# Altium footprint library imx8mnano.PcbLib: 57 footprints (part 1 of 4)
Each footprint in its own frame and in the unit in brackets; x right, y up, seen from the top. Pads: shape width x height; smd on the part's side, far side on the other; paste and mask are expansions set on the pad; w line width, h text height; cw(c..) or ccw(c..) is an arc to the next point about the centre after c.
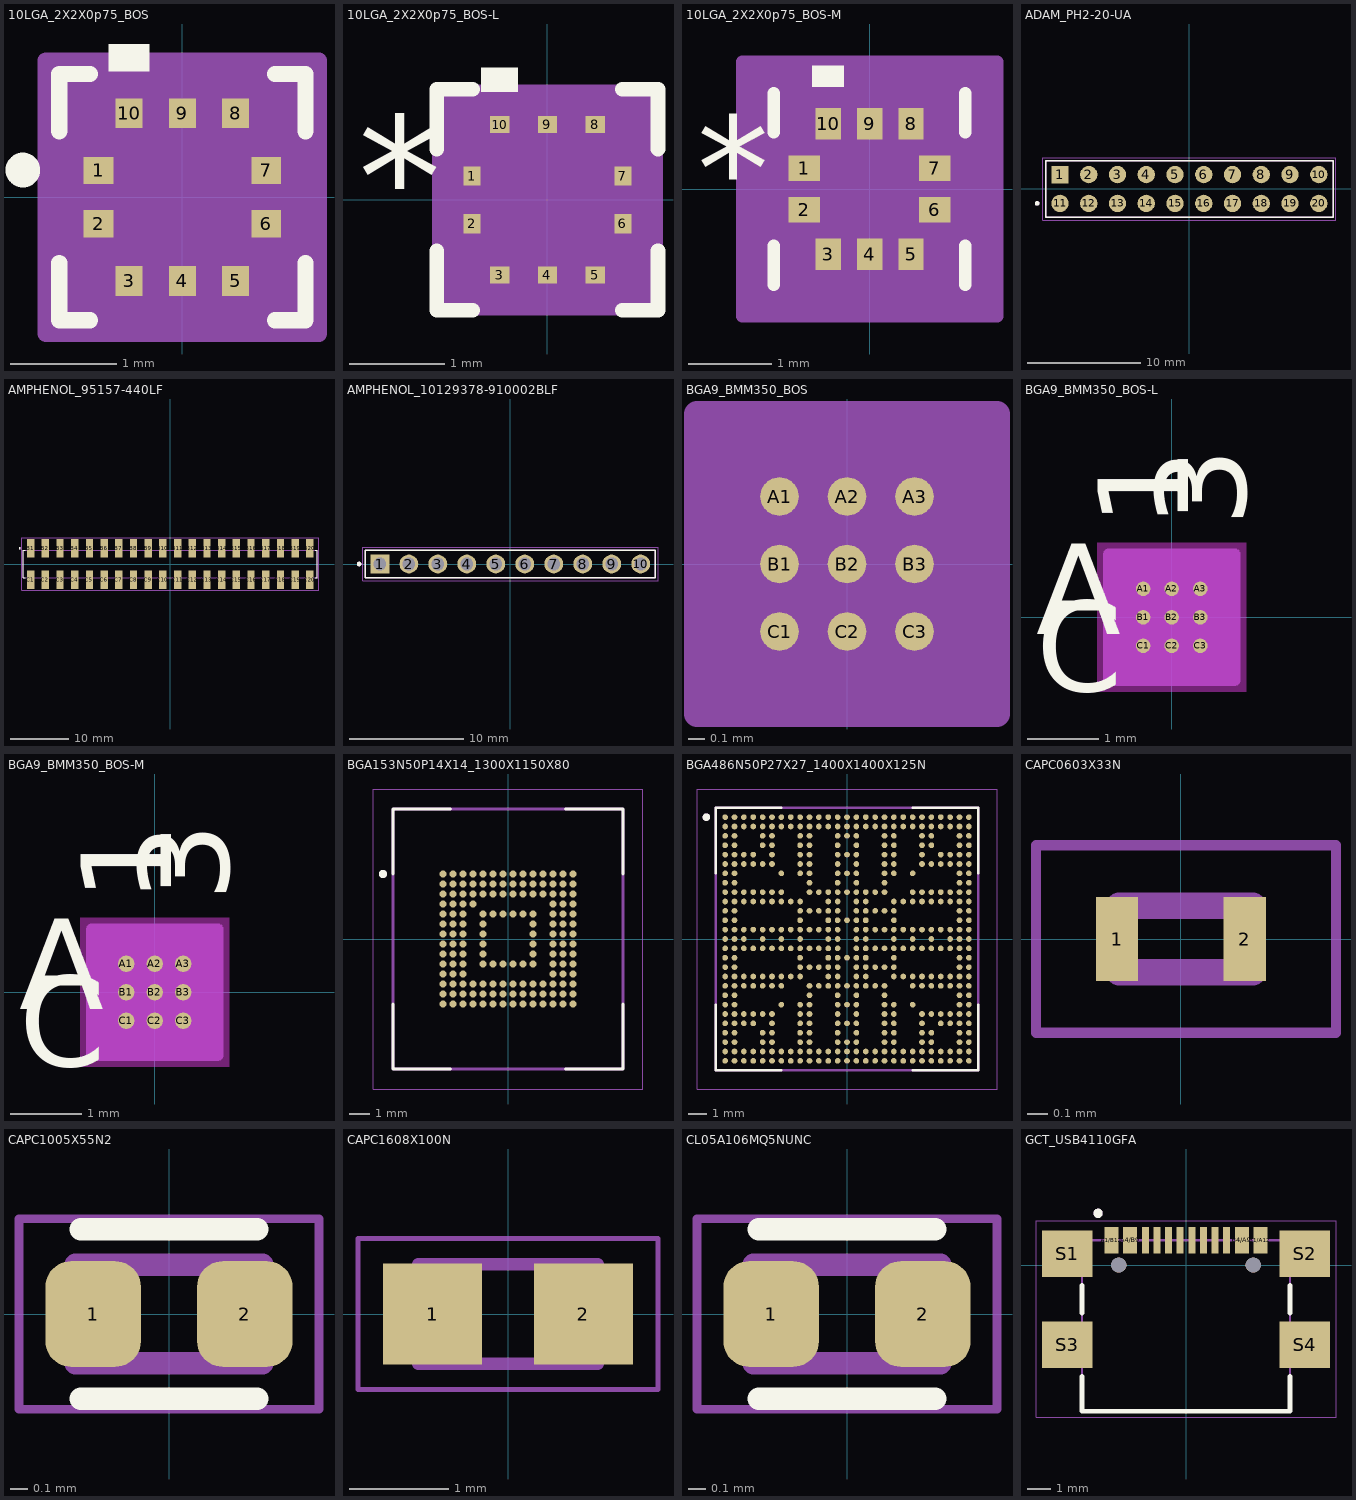
[diagram p0: the footprints below, top view; thin cyan lines are the x and y axes]

## 10LGA_2X2X0p75_BOS [mil]
pads (10):
  rect 11x10 smd paste+0 mask+0: 1(-31,9.84) 2(-31,-9.84) 6(31,-9.84) 7(31,9.84)
  rect 10x11 smd paste+0 mask+0: 3(-19.68,-31) 4(0,-31) 5(19.68,-31) 8(19.68,31) 9(0,31) 10(-19.68,31)
Top Overlay:
  circle w10: c-59,10 r1.41
  region: -12.19,46.5 -27.18,46.5 -27.18,56.5 -12.19,56.5
  lines w6: -45.5,-24.36 -45.5,-45.5 -34.2,-45.5 ; -45.5,24.36 -45.5,45.5 -34.2,45.5 ; 34.2,-45.5 45.5,-45.5 45.5,-24.36 ; 34.2,45.5 45.5,45.5 45.5,24.36
Mechanical 13:
  lines w1: -40.5,-9.5 9.5,40.5 ; -40.5,-40.5 -40.5,40.5 40.5,40.5 40.5,-40.5 -40.5,-40.5 ; -40.5,-14.84 -36.5,-14.84 -36.5,-4.84 -40.5,-4.84 -40.5,-14.84 ; -40.5,4.84 -36.5,4.84 -36.5,14.84 -40.5,14.84 -40.5,4.84 ; -24.68,-40.5 -24.68,-36.5 -14.69,-36.5 -14.69,-40.5 -24.68,-40.5 ; -24.68,36.5 -24.68,40.5 -14.69,40.5 -14.69,36.5 -24.68,36.5 ; -5,-40.5 -5,-36.5 5,-36.5 5,-40.5 -5,-40.5 ; -5,36.5 -5,40.5 5,40.5 5,36.5 -5,36.5 ; 14.69,-40.5 14.69,-36.5 24.68,-36.5 24.68,-40.5 14.69,-40.5 ; 14.69,36.5 14.69,40.5 24.68,40.5 24.68,36.5 14.69,36.5 ; 36.5,-14.84 36.5,-4.84 40.5,-4.84 40.5,-14.84 36.5,-14.84 ; 36.5,4.84 36.5,14.84 40.5,14.84 40.5,4.84 36.5,4.84
  text "*" at -7,-15.16 h50
Mechanical 15:
  region: -34.69,-50.5 -50.5,-50.5 -50.5,-24.84 -50.5,24.84 -50.5,50.5 -34.69,50.5 34.69,50.5 50.5,50.5 50.5,24.84 50.5,-24.84 50.5,-50.5 34.69,-50.5
  lines w6: -50.5,-50.5 -34.69,-50.5 34.69,-50.5 50.5,-50.5 50.5,-24.84 50.5,24.84 50.5,50.5 34.69,50.5 -34.69,50.5 -50.5,50.5 -50.5,24.84 -50.5,-24.84 -50.5,-50.5
3D body "10LGA_2X2X0p75_BOS.step": height 32.09, standoff 0, extent -40.51,-40.51 40.51,40.51

## 10LGA_2X2X0p75_BOS-L [mil]
pads (10):
  rect 7x8 smd paste+0 mask+0: 1(-31,9.84) 2(-31,-9.84) 6(31,-9.84) 7(31,9.84)
  rect 8x7 smd paste+0 mask+0: 3(-19.68,-31) 4(0,-31) 5(19.68,-31) 8(19.68,31) 9(0,31) 10(-19.68,31)
Top Overlay:
  region: -12.19,44.5 -27.18,44.5 -27.18,54.5 -12.19,54.5
  lines w6: -45.5,-20.96 -45.5,-45.5 -30.8,-45.5 ; -45.5,20.96 -45.5,45.5 -30.8,45.5 ; 30.8,-45.5 45.5,-45.5 45.5,-20.96 ; 30.8,45.5 45.5,45.5 45.5,20.96
  text "*" at -78,-15.16 h50
Mechanical 13:
  lines w1: -40.5,-9.5 9.5,40.5 ; -40.5,-40.5 40.5,-40.5 40.5,40.5 -40.5,40.5 -40.5,-40.5 ; -40.5,-14.84 -40.5,-4.84 -36.5,-4.84 -36.5,-14.84 -40.5,-14.84 ; -40.5,4.84 -40.5,14.84 -36.5,14.84 -36.5,4.84 -40.5,4.84 ; -24.68,-40.5 -14.69,-40.5 -14.69,-36.5 -24.68,-36.5 -24.68,-40.5 ; -24.68,36.5 -14.69,36.5 -14.69,40.5 -24.68,40.5 -24.68,36.5 ; -5,-40.5 5,-40.5 5,-36.5 -5,-36.5 -5,-40.5 ; -5,36.5 5,36.5 5,40.5 -5,40.5 -5,36.5 ; 14.69,-40.5 24.68,-40.5 24.68,-36.5 14.69,-36.5 14.69,-40.5 ; 14.69,36.5 24.68,36.5 24.68,40.5 14.69,40.5 14.69,36.5 ; 36.5,-14.84 40.5,-14.84 40.5,-4.84 36.5,-4.84 36.5,-14.84 ; 36.5,4.84 40.5,4.84 40.5,14.84 36.5,14.84 36.5,4.84
  text "*" at -9,-15.16 h50
Mechanical 15:
  region: -27.68,-44.5 -44.5,-44.5 -44.5,-17.84 -44.5,17.84 -44.5,44.5 -27.68,44.5 27.68,44.5 44.5,44.5 44.5,17.84 44.5,-17.84 44.5,-44.5 27.68,-44.5
  lines w6: -44.5,-44.5 -44.5,-17.84 -44.5,17.84 -44.5,44.5 -27.68,44.5 27.68,44.5 44.5,44.5 44.5,17.84 44.5,-17.84 44.5,-44.5 27.68,-44.5 -27.68,-44.5 -44.5,-44.5
3D body "10LGA_2X2X0p75_BOS.step": height 32.09, standoff 0, extent -40.51,-40.51 40.51,40.51

## 10LGA_2X2X0p75_BOS-M [mil]
pads (10):
  rect 15x12 smd paste+0 mask+0: 1(-31,9.84) 2(-31,-9.84) 6(31,-9.84) 7(31,9.84)
  rect 12x15 smd paste+0 mask+0: 3(-19.68,-31) 4(0,-31) 5(19.68,-31) 8(19.68,31) 9(0,31) 10(-19.68,31)
Top Overlay:
  region: -12.19,48.5 -27.18,48.5 -27.18,58.5 -12.19,58.5
  lines w6: -45.5,-45.5 -45.5,-26.92 ; -45.5,26.92 -45.5,45.5 ; 45.5,-45.5 45.5,-26.92 ; 45.5,26.92 45.5,45.5
  text "*" at -82,-15.16 h50
Mechanical 13:
  lines w1: -40.5,-9.5 9.5,40.5 ; -40.5,-40.5 40.5,-40.5 40.5,40.5 -40.5,40.5 -40.5,-40.5 ; -40.5,-14.84 -40.5,-4.84 -36.5,-4.84 -36.5,-14.84 -40.5,-14.84 ; -40.5,4.84 -40.5,14.84 -36.5,14.84 -36.5,4.84 -40.5,4.84 ; -24.68,-40.5 -14.69,-40.5 -14.69,-36.5 -24.68,-36.5 -24.68,-40.5 ; -24.68,36.5 -14.69,36.5 -14.69,40.5 -24.68,40.5 -24.68,36.5 ; -5,-40.5 5,-40.5 5,-36.5 -5,-36.5 -5,-40.5 ; -5,36.5 5,36.5 5,40.5 -5,40.5 -5,36.5 ; 14.69,-40.5 24.68,-40.5 24.68,-36.5 14.69,-36.5 14.69,-40.5 ; 14.69,36.5 24.68,36.5 24.68,40.5 14.69,40.5 14.69,36.5 ; 36.5,-14.84 40.5,-14.84 40.5,-4.84 36.5,-4.84 36.5,-14.84 ; 36.5,4.84 40.5,4.84 40.5,14.84 36.5,14.84 36.5,4.84
  text "*" at -5,-15.16 h50
Mechanical 15:
  region: -45.69,-60.5 -60.5,-60.5 -60.5,-35.84 -60.5,35.84 -60.5,60.5 -45.69,60.5 45.69,60.5 60.5,60.5 60.5,35.84 60.5,-35.84 60.5,-60.5 45.69,-60.5
  lines w6: -60.5,-60.5 -60.5,-35.84 -60.5,35.84 -60.5,60.5 -45.69,60.5 45.69,60.5 60.5,60.5 60.5,35.84 60.5,-35.84 60.5,-60.5 45.69,-60.5 -45.69,-60.5 -60.5,-60.5
3D body "10LGA_2X2X0p75_BOS.step": height 32.09, standoff 0, extent -40.51,-40.51 40.51,40.51

## ADAM_PH2-20-UA [mm]
pads (20):
  rect 1.53x1.53 smd: 1(-11.43,1.27)
  round 1.53 smd: 2(-8.89,1.27) 3(-6.35,1.27) 4(-3.81,1.27) 5(-1.27,1.27) 6(1.27,1.27) 7(3.81,1.27) 8(6.35,1.27) 9(8.89,1.27) 10(11.43,1.27) 11(-11.43,-1.27) 12(-8.89,-1.27) 13(-6.35,-1.27) 14(-3.81,-1.27) 15(-1.27,-1.27) 16(1.27,-1.27) 17(3.81,-1.27) 18(6.35,-1.27) 19(8.89,-1.27) 20(11.43,-1.27)
Top Overlay:
  circle w0.2: c-13.45,-1.27 r0.1
  lines w0.127: -12.7,-2.5 12.7,-2.5 12.7,2.5 -12.7,2.5 -12.7,-2.5
Mechanical 13:
  circle w0.2: c-13.45,-1.27 r0.1
  lines w0.127: -12.7,-2.5 12.7,-2.5 12.7,2.5 -12.7,2.5 -12.7,-2.5
Mechanical 15:
  lines w0.05: -12.95,-2.75 12.95,-2.75 12.95,2.75 -12.95,2.75 -12.95,-2.75

## AMPHENOL_95157-440LF [mm]
pads (40):
  rect 1.27x3.18 smd: B1(-24.13,2.73) B2(-21.59,2.73) B3(-19.05,2.73) B4(-16.51,2.73) B5(-13.97,2.73) B6(-11.43,2.73) B7(-8.89,2.73) B8(-6.35,2.73) B9(-3.81,2.73) B10(-1.27,2.73) B11(1.27,2.73) B12(3.81,2.73) B13(6.35,2.73) B14(8.89,2.73) B15(11.43,2.73) B16(13.97,2.73) B17(16.51,2.73) B18(19.05,2.73) B19(21.59,2.73) B20(24.13,2.73) C1(-24.13,-2.73) C2(-21.59,-2.73) C3(-19.05,-2.73) C4(-16.51,-2.73) C5(-13.97,-2.73) C6(-11.43,-2.73) C7(-8.89,-2.73) C8(-6.35,-2.73) C9(-3.81,-2.73) C10(-1.27,-2.73) C11(1.27,-2.73) C12(3.81,-2.73) C13(6.35,-2.73) C14(8.89,-2.73) C15(11.43,-2.73) C16(13.97,-2.73) C17(16.51,-2.73) C18(19.05,-2.73) C19(21.59,-2.73) C20(24.13,-2.73)
Top Overlay:
  circle w0.2: c-26.05,2.73 r0.1
  lines w0.127: -25.085,-2.415 -25.4,-2.415 -25.4,2.415 -25.085,2.415 ; 25.085,-2.415 25.4,-2.415 25.4,2.415 25.085,2.415
Mechanical 13:
  circle w0.2: c-26.05,2.73 r0.1
  lines w0.127: -25.4,-2.415 -25.4,2.415 25.4,2.415 25.4,-2.415 -25.4,-2.415
Mechanical 15:
  lines w0.05: -25.65,-4.57 -25.65,4.57 25.65,4.57 25.65,-4.57 -25.65,-4.57
3D body "step_temp.STEP": height 9.66, standoff 0, extent -25.2,-3.638 25.2,3.648

## AMPHENOL_10129378-910002BLF [mm]
height 10.82
pads (10):
  rect 1.65x1.65 / inner round 1.65 / far side rect 1.65x1.65 hole 1.1: 1(-11.43,0)
  round 1.65 hole 1.1: 2(-8.89,0) 3(-6.35,0) 4(-3.81,0) 5(-1.27,0) 6(1.27,0) 7(3.81,0) 8(6.35,0) 9(8.89,0) 10(11.43,0)
Top Overlay:
  circle w0.2: c-13.25,0 r0.1
  lines w0.127: -12.7,-1.205 -12.7,1.205 12.7,1.205 12.7,-1.205 -12.7,-1.205
Mechanical 13:
  circle w0.2: c-13.25,0 r0.1
  lines w0.127: -12.7,-1.205 -12.7,1.205 12.7,1.205 12.7,-1.205 -12.7,-1.205
Mechanical 15:
  lines w0.05: -12.95,-1.455 -12.95,1.455 12.95,1.455 12.95,-1.455 -12.95,-1.455
3D body "step_temp.STEP": height 8.18, standoff -2.49, extent -12.7,-1.205 12.7,1.205

## BGA9_BMM350_BOS [mil]
pads (9):
  round 9 smd paste+0 mask+0: A1(-15.75,15.75) A2(0,15.75) A3(15.75,15.75) B1(-15.75,0) B2(0,0) B3(15.75,0) C1(-15.75,-15.75) C2(0,-15.75) C3(15.75,-15.75)
Mechanical 13:
  lines w1: -25,17.12 -17.12,25 ; -25,-25 25,-25 25,25 -25,25 -25,-25
Mechanical 15:
  region: 35,-35 -35,-35 -35,35 35,35
  lines w6: -35,-35 -35,35 35,35 35,-35 -35,-35
3D body "BGA9_BMM350_BOS.step": height 21.1, standoff 0.01, extent -25,-25 25,25

## BGA9_BMM350_BOS-L [mil]
pads (9):
  round 8 smd paste+0 mask+0: A1(-15.75,15.75) A2(0,15.75) A3(15.75,15.75) B1(-15.75,0) B2(0,0) B3(15.75,0) C1(-15.75,-15.75) C2(0,-15.75) C3(15.75,-15.75)
Top Overlay:
  text "A" at -75,-9.25 h50
  text "C" at -75,-40.75 h50
  text "1" at 9.25,50 h50
  text "3" at 40.75,50 h50
Bottom Overlay:
  text "A" at -50,-9.25 h50
  text "C" at -50,-40.75 h50
  text "1" at -40.75,50 h50
  text "3" at -9.25,50 h50
Keep-Out Layer:
  region: -41.12,-41.12 -41.12,41.12 41.12,41.12 41.12,-41.12
Mechanical 13:
  lines w1: -25,17.12 -17.12,25 ; -25,-25 25,-25 25,25 -25,25 -25,-25
  text "A" at -75,-9.25 h50
  text "C" at -75,-40.75 h50
  text "1" at 9.25,50 h50
  text "3" at 40.75,50 h50
Mechanical 15:
  region: 35,-35 -35,-35 -35,35 35,35
  lines w6: -35,-35 -35,35 35,35 35,-35 -35,-35
3D body "BGA9_BMM350_BOS.step": height 21.1, standoff 0.01, extent -25,-25 25,25

## BGA9_BMM350_BOS-M [mil]
pads (9):
  round 9 smd paste+0 mask+0: A1(-15.75,15.75) A2(0,15.75) A3(15.75,15.75) B1(-15.75,0) B2(0,0) B3(15.75,0) C1(-15.75,-15.75) C2(0,-15.75) C3(15.75,-15.75)
Top Overlay:
  text "A" at -75,-9.25 h50
  text "C" at -75,-40.75 h50
  text "1" at 9.25,50 h50
  text "3" at 40.75,50 h50
Bottom Overlay:
  text "A" at -50,-9.25 h50
  text "C" at -50,-40.75 h50
  text "1" at -40.75,50 h50
  text "3" at -9.25,50 h50
Keep-Out Layer:
  region: -41.12,-41.12 -41.12,41.12 41.12,41.12 41.12,-41.12
Mechanical 13:
  lines w1: -25,17.12 -17.12,25 ; -25,-25 25,-25 25,25 -25,25 -25,-25
  text "A" at -75,-9.25 h50
  text "C" at -75,-40.75 h50
  text "1" at 9.25,50 h50
  text "3" at 40.75,50 h50
Mechanical 15:
  region: 35,-35 -35,-35 -35,35 35,35
  lines w6: -35,-35 -35,35 35,35 35,-35 -35,-35
3D body "BGA9_BMM350_BOS.step": height 21.1, standoff 0.01, extent -25,-25 25,25

## BGA153N50P14X14_1300X1150X80 [mm]
height 0.8
pads (153):
  round 0.35 smd: A1(-3.25,3.25) A2(-2.75,3.25) A3(-2.25,3.25) A4(-1.75,3.25) A5(-1.25,3.25) A6(-0.75,3.25) A7(-0.25,3.25) A8(0.25,3.25) A9(0.75,3.25) A10(1.25,3.25) A11(1.75,3.25) A12(2.25,3.25) A13(2.75,3.25) A14(3.25,3.25) B1(-3.25,2.75) B2(-2.75,2.75) B3(-2.25,2.75) B4(-1.75,2.75) B5(-1.25,2.75) B6(-0.75,2.75) B7(-0.25,2.75) B8(0.25,2.75) B9(0.75,2.75) B10(1.25,2.75) B11(1.75,2.75) B12(2.25,2.75) B13(2.75,2.75) B14(3.25,2.75) C1(-3.25,2.25) C2(-2.75,2.25) C3(-2.25,2.25) C4(-1.75,2.25) C5(-1.25,2.25) C6(-0.75,2.25) C7(-0.25,2.25) C8(0.25,2.25) C9(0.75,2.25) C10(1.25,2.25) C11(1.75,2.25) C12(2.25,2.25) C13(2.75,2.25) C14(3.25,2.25) D1(-3.25,1.75) D2(-2.75,1.75) D3(-2.25,1.75) D4(-1.75,1.75) D12(2.25,1.75) D13(2.75,1.75) D14(3.25,1.75) E1(-3.25,1.25) E2(-2.75,1.25) E3(-2.25,1.25) E5(-1.25,1.25) E6(-0.75,1.25) E7(-0.25,1.25) E8(0.25,1.25) E9(0.75,1.25) E10(1.25,1.25) E12(2.25,1.25) E13(2.75,1.25) E14(3.25,1.25) F1(-3.25,0.75) F2(-2.75,0.75) F3(-2.25,0.75) F5(-1.25,0.75) F10(1.25,0.75) F12(2.25,0.75) F13(2.75,0.75) F14(3.25,0.75) G1(-3.25,0.25) G2(-2.75,0.25) G3(-2.25,0.25) G5(-1.25,0.25) G10(1.25,0.25) G12(2.25,0.25) G13(2.75,0.25) G14(3.25,0.25) H1(-3.25,-0.25) H2(-2.75,-0.25) H3(-2.25,-0.25) H5(-1.25,-0.25) H10(1.25,-0.25) H12(2.25,-0.25) H13(2.75,-0.25) H14(3.25,-0.25) J1(-3.25,-0.75) J2(-2.75,-0.75) J3(-2.25,-0.75) J5(-1.25,-0.75) J10(1.25,-0.75) J12(2.25,-0.75) J13(2.75,-0.75) J14(3.25,-0.75) K1(-3.25,-1.25) K2(-2.75,-1.25) K3(-2.25,-1.25) K5(-1.25,-1.25) K6(-0.75,-1.25) K7(-0.25,-1.25) K8(0.25,-1.25) K9(0.75,-1.25) K10(1.25,-1.25) K12(2.25,-1.25) K13(2.75,-1.25) K14(3.25,-1.25) L1(-3.25,-1.75) L2(-2.75,-1.75) L3(-2.25,-1.75) L12(2.25,-1.75) L13(2.75,-1.75) L14(3.25,-1.75) M1(-3.25,-2.25) M2(-2.75,-2.25) M3(-2.25,-2.25) M4(-1.75,-2.25) M5(-1.25,-2.25) M6(-0.75,-2.25) M7(-0.25,-2.25) M8(0.25,-2.25) M9(0.75,-2.25) M10(1.25,-2.25) M11(1.75,-2.25) M12(2.25,-2.25) M13(2.75,-2.25) M14(3.25,-2.25) N1(-3.25,-2.75) N2(-2.75,-2.75) N3(-2.25,-2.75) N4(-1.75,-2.75) N5(-1.25,-2.75) N6(-0.75,-2.75) N7(-0.25,-2.75) N8(0.25,-2.75) N9(0.75,-2.75) N10(1.25,-2.75) N11(1.75,-2.75) N12(2.25,-2.75) N13(2.75,-2.75) N14(3.25,-2.75) P1(-3.25,-3.25) P2(-2.75,-3.25) P3(-2.25,-3.25) P4(-1.75,-3.25) P5(-1.25,-3.25) P6(-0.75,-3.25) P7(-0.25,-3.25) P8(0.25,-3.25) P9(0.75,-3.25) P10(1.25,-3.25) P11(1.75,-3.25) P12(2.25,-3.25) P13(2.75,-3.25) P14(3.25,-3.25)
Top Overlay:
  circle w0.2: c-6.25,3.25 r0.1
  lines w0.127: -5.75,-3.25 -5.75,-6.5 -2.875,-6.5 ; -5.75,3.25 -5.75,6.5 -2.875,6.5 ; 2.875,-6.5 5.75,-6.5 5.75,-3.25 ; 2.875,6.5 5.75,6.5 5.75,3.25
Mechanical 13:
  circle w0.2: c-6.25,3.25 r0.1
  lines w0.127: -5.75,-6.5 5.75,-6.5 5.75,6.5 -5.75,6.5 -5.75,-6.5
Mechanical 15:
  lines w0.05: -6.75,-7.5 6.75,-7.5 6.75,7.5 -6.75,7.5 -6.75,-7.5

## BGA486N50P27X27_1400X1400X125N [mil]
pads (486):
  round 12 smd mask+0: A1(-255.91,255.91) A2(-236.22,255.91) A3(-216.54,255.91) A4(-196.85,255.91) A5(-177.17,255.91) A6(-157.48,255.91) A7(-137.8,255.91) A8(-118.11,255.91) A9(-98.43,255.91) A10(-78.74,255.91) A11(-59.06,255.91) A12(-39.37,255.91) A13(-19.68,255.91) A14(0,255.91) A15(19.68,255.91) A16(39.37,255.91) A17(59.06,255.91) A18(78.74,255.91) A19(98.43,255.91) A20(118.11,255.91) A21(137.8,255.91) A22(157.48,255.91) A23(177.17,255.91) A24(196.85,255.91) A25(216.54,255.91) A26(236.22,255.91) A27(255.91,255.91) AA1(-255.91,-137.8) AA2(-236.22,-137.8) AA7(-137.8,-137.8) AA9(-98.43,-137.8) AA10(-78.74,-137.8) AA13(-19.68,-137.8) AA14(0,-137.8) AA15(19.68,-137.8) AA18(78.74,-137.8) AA19(98.43,-137.8) AA21(137.8,-137.8) AA26(236.22,-137.8) AA27(255.91,-137.8) AB1(-255.91,-157.48) AB2(-236.22,-157.48) AB3(-216.54,-157.48) AB4(-196.85,-157.48) AB5(-177.17,-157.48) AB6(-157.48,-157.48) AB9(-98.43,-157.48) AB10(-78.74,-157.48) AB13(-19.68,-157.48) AB15(19.68,-157.48) AB18(78.74,-157.48) AB19(98.43,-157.48) AB22(157.48,-157.48) AB23(177.17,-157.48) AB24(196.85,-157.48) AB25(216.54,-157.48) AB26(236.22,-157.48) AB27(255.91,-157.48) AC1(-255.91,-177.17) AC2(-236.22,-177.17) AC3(-216.54,-177.17) AC4(-196.85,-177.17) AC6(-157.48,-177.17) AC9(-98.43,-177.17) AC10(-78.74,-177.17) AC13(-19.68,-177.17) AC14(0,-177.17) AC15(19.68,-177.17) AC18(78.74,-177.17) AC19(98.43,-177.17) AC22(157.48,-177.17) AC24(196.85,-177.17) AC25(216.54,-177.17) AC26(236.22,-177.17) AC27(255.91,-177.17) AD1(-255.91,-196.85) AD2(-236.22,-196.85) AD5(-177.17,-196.85) AD6(-157.48,-196.85) AD9(-98.43,-196.85) AD10(-78.74,-196.85) AD13(-19.68,-196.85) AD15(19.68,-196.85) AD18(78.74,-196.85) AD19(98.43,-196.85) AD22(157.48,-196.85) AD23(177.17,-196.85) AD26(236.22,-196.85) AD27(255.91,-196.85) AE1(-255.91,-216.54) AE2(-236.22,-216.54) AE5(-177.17,-216.54) AE6(-157.48,-216.54) AE9(-98.43,-216.54) AE10(-78.74,-216.54) AE13(-19.68,-216.54) AE14(0,-216.54) AE15(19.68,-216.54) AE18(78.74,-216.54) AE19(98.43,-216.54) AE22(157.48,-216.54) AE23(177.17,-216.54) AE26(236.22,-216.54) AE27(255.91,-216.54) AF1(-255.91,-236.22) AF2(-236.22,-236.22) AF3(-216.54,-236.22) AF4(-196.85,-236.22) AF5(-177.17,-236.22) AF6(-157.48,-236.22) AF7(-137.8,-236.22) AF8(-118.11,-236.22) AF9(-98.43,-236.22) AF10(-78.74,-236.22) AF11(-59.06,-236.22) AF12(-39.37,-236.22) AF13(-19.68,-236.22) AF14(0,-236.22) AF15(19.68,-236.22) AF16(39.37,-236.22) AF17(59.06,-236.22) AF18(78.74,-236.22) AF19(98.43,-236.22) AF20(118.11,-236.22) AF21(137.8,-236.22) AF22(157.48,-236.22) AF23(177.17,-236.22) AF24(196.85,-236.22) AF25(216.54,-236.22) AF26(236.22,-236.22) AF27(255.91,-236.22) AG1(-255.91,-255.91) AG2(-236.22,-255.91) AG3(-216.54,-255.91) AG4(-196.85,-255.91) AG5(-177.17,-255.91) AG6(-157.48,-255.91) AG7(-137.8,-255.91) AG8(-118.11,-255.91) AG9(-98.43,-255.91) AG10(-78.74,-255.91) AG11(-59.06,-255.91) AG12(-39.37,-255.91) AG13(-19.68,-255.91) AG14(0,-255.91) AG15(19.68,-255.91) AG16(39.37,-255.91) AG17(59.06,-255.91) AG18(78.74,-255.91) AG19(98.43,-255.91) AG20(118.11,-255.91) AG21(137.8,-255.91) AG22(157.48,-255.91) AG23(177.17,-255.91) AG24(196.85,-255.91) AG25(216.54,-255.91) AG26(236.22,-255.91) AG27(255.91,-255.91) B1(-255.91,236.22) B2(-236.22,236.22) B3(-216.54,236.22) B4(-196.85,236.22) B5(-177.17,236.22) B6(-157.48,236.22) B7(-137.8,236.22) B8(-118.11,236.22) B9(-98.43,236.22) B10(-78.74,236.22) B11(-59.06,236.22) B12(-39.37,236.22) B13(-19.68,236.22) B14(0,236.22) B15(19.68,236.22) B16(39.37,236.22) B17(59.06,236.22) B18(78.74,236.22) B19(98.43,236.22) B20(118.11,236.22) B21(137.8,236.22) B22(157.48,236.22) B23(177.17,236.22) B24(196.85,236.22) B25(216.54,236.22) B26(236.22,236.22) B27(255.91,236.22) C1(-255.91,216.54) C2(-236.22,216.54) C5(-177.17,216.54) C6(-157.48,216.54) C9(-98.43,216.54) C10(-78.74,216.54) C13(-19.68,216.54) C14(0,216.54) C15(19.68,216.54) C18(78.74,216.54) C19(98.43,216.54) C22(157.48,216.54) C23(177.17,216.54) C26(236.22,216.54) C27(255.91,216.54) D1(-255.91,196.85) D2(-236.22,196.85) D5(-177.17,196.85) D6(-157.48,196.85) D9(-98.43,196.85) D10(-78.74,196.85) D13(-19.68,196.85) D15(19.68,196.85) D18(78.74,196.85) D19(98.43,196.85) D22(157.48,196.85) D23(177.17,196.85) D26(236.22,196.85) D27(255.91,196.85) E1(-255.91,177.17) E2(-236.22,177.17) E3(-216.54,177.17) E4(-196.85,177.17) E6(-157.48,177.17) E9(-98.43,177.17) E10(-78.74,177.17) E13(-19.68,177.17) E14(0,177.17) E15(19.68,177.17) E18(78.74,177.17) E19(98.43,177.17) E22(157.48,177.17) E24(196.85,177.17) E25(216.54,177.17) E26(236.22,177.17) E27(255.91,177.17) F1(-255.91,157.48) F2(-236.22,157.48) F3(-216.54,157.48) F4(-196.85,157.48) F5(-177.17,157.48) F6(-157.48,157.48) F9(-98.43,157.48) F10(-78.74,157.48) F13(-19.68,157.48) F15(19.68,157.48) F18(78.74,157.48) F19(98.43,157.48) F22(157.48,157.48) F23(177.17,157.48) F24(196.85,157.48) F25(216.54,157.48) F26(236.22,157.48) F27(255.91,157.48) G1(-255.91,137.8) G2(-236.22,137.8) G7(-137.8,137.8) G9(-98.43,137.8) G10(-78.74,137.8) G13(-19.68,137.8) G14(0,137.8) G15(19.68,137.8) G18(78.74,137.8) G19(98.43,137.8) G21(137.8,137.8) G26(236.22,137.8) G27(255.91,137.8) H1(-255.91,118.11) H2(-236.22,118.11) H10(-78.74,118.11) H13(-19.68,118.11) H15(19.68,118.11) H18(78.74,118.11) H26(236.22,118.11) H27(255.91,118.11) J1(-255.91,98.43) J2(-236.22,98.43) J3(-216.54,98.43) J4(-196.85,98.43) J5(-177.17,98.43) J6(-157.48,98.43) J7(-137.8,98.43) J10(-78.74,98.43) J11(-59.06,98.43) J12(-39.37,98.43) J13(-19.68,98.43) J14(0,98.43) J15(19.68,98.43) J16(39.37,98.43) J17(59.06,98.43) J18(78.74,98.43) J21(137.8,98.43) J22(157.48,98.43) J23(177.17,98.43) J24(196.85,98.43) J25(216.54,98.43) J26(236.22,98.43) J27(255.91,98.43) K1(-255.91,78.74) K2(-236.22,78.74) K3(-216.54,78.74) K4(-196.85,78.74) K5(-177.17,78.74) K6(-157.48,78.74) K7(-137.8,78.74) K8(-118.11,78.74) K9(-98.43,78.74) K12(-39.37,78.74) K13(-19.68,78.74) K15(19.68,78.74) K16(39.37,78.74) K19(98.43,78.74) K20(118.11,78.74) K21(137.8,78.74) K22(157.48,78.74) K23(177.17,78.74) K24(196.85,78.74) K25(216.54,78.74) K26(236.22,78.74) K27(255.91,78.74) L1(-255.91,59.06) L2(-236.22,59.06) L9(-98.43,59.06) L10(-78.74,59.06) L11(-59.06,59.06) L12(-39.37,59.06) L13(-19.68,59.06) L15(19.68,59.06) L16(39.37,59.06) L17(59.06,59.06) L18(78.74,59.06) L19(98.43,59.06) L26(236.22,59.06) L27(255.91,59.06) M1(-255.91,39.37) M2(-236.22,39.37) M9(-98.43,39.37) M12(-39.37,39.37) M13(-19.68,39.37) M14(0,39.37) M15(19.68,39.37) M16(39.37,39.37) M19(98.43,39.37) M26(236.22,39.37) M27(255.91,39.37) N1(-255.91,19.68) N2(-236.22,19.68) N3(-216.54,19.68) N4(-196.85,19.68) N5(-177.17,19.68) N6(-157.48,19.68) N7(-137.8,19.68) N8(-118.11,19.68) N9(-98.43,19.68) N10(-78.74,19.68) N11(-59.06,19.68) N12(-39.37,19.68) N13(-19.68,19.68) N15(19.68,19.68) N16(39.37,19.68) N17(59.06,19.68) N18(78.74,19.68) N19(98.43,19.68) N20(118.11,19.68) N21(137.8,19.68) N22(157.48,19.68) N23(177.17,19.68) N24(196.85,19.68) N25(216.54,19.68) N26(236.22,19.68) N27(255.91,19.68) P1(-255.91,0) P2(-236.22,0) P3(-216.54,0) P5(-177.17,0) P7(-137.8,0) P9(-98.43,0) P12(-39.37,0) P13(-19.68,0) P15(19.68,0) P16(39.37,0) P19(98.43,0) P21(137.8,0) P23(177.17,0) P25(216.54,0) P26(236.22,0) P27(255.91,0) R1(-255.91,-19.68) R2(-236.22,-19.68) R3(-216.54,-19.68) R4(-196.85,-19.68) R5(-177.17,-19.68) R6(-157.48,-19.68) R7(-137.8,-19.68) R8(-118.11,-19.68) R9(-98.43,-19.68) R10(-78.74,-19.68) R11(-59.06,-19.68) R12(-39.37,-19.68) R13(-19.68,-19.68) R15(19.68,-19.68) R16(39.37,-19.68) R17(59.06,-19.68) R18(78.74,-19.68) R19(98.43,-19.68) R20(118.11,-19.68) R21(137.8,-19.68) R22(157.48,-19.68) R23(177.17,-19.68) R24(196.85,-19.68) R25(216.54,-19.68) R26(236.22,-19.68) R27(255.91,-19.68) T1(-255.91,-39.37) T2(-236.22,-39.37) T9(-98.43,-39.37) T12(-39.37,-39.37) T13(-19.68,-39.37) T14(0,-39.37) T15(19.68,-39.37) T16(39.37,-39.37) T19(98.43,-39.37) T26(236.22,-39.37) T27(255.91,-39.37) U1(-255.91,-59.06) U2(-236.22,-59.06) U9(-98.43,-59.06) U10(-78.74,-59.06) U11(-59.06,-59.06) U12(-39.37,-59.06) U13(-19.68,-59.06) U15(19.68,-59.06) U16(39.37,-59.06) U17(59.06,-59.06) U18(78.74,-59.06) U19(98.43,-59.06) U26(236.22,-59.06) U27(255.91,-59.06) V1(-255.91,-78.74) V2(-236.22,-78.74) V3(-216.54,-78.74) V4(-196.85,-78.74) V5(-177.17,-78.74) V6(-157.48,-78.74) V7(-137.8,-78.74) V8(-118.11,-78.74) V9(-98.43,-78.74) V12(-39.37,-78.74) V13(-19.68,-78.74) V15(19.68,-78.74) V16(39.37,-78.74) V19(98.43,-78.74) V20(118.11,-78.74) V21(137.8,-78.74) V22(157.48,-78.74) V23(177.17,-78.74) V24(196.85,-78.74) V25(216.54,-78.74) V26(236.22,-78.74) V27(255.91,-78.74) W1(-255.91,-98.43) W2(-236.22,-98.43) W3(-216.54,-98.43) W4(-196.85,-98.43) W5(-177.17,-98.43) W6(-157.48,-98.43) W7(-137.8,-98.43) W10(-78.74,-98.43) W11(-59.06,-98.43) W12(-39.37,-98.43) W13(-19.68,-98.43) W14(0,-98.43) W15(19.68,-98.43) W16(39.37,-98.43) W17(59.06,-98.43) W18(78.74,-98.43) W21(137.8,-98.43) W22(157.48,-98.43) W23(177.17,-98.43) W24(196.85,-98.43) W25(216.54,-98.43) W26(236.22,-98.43) W27(255.91,-98.43) Y1(-255.91,-118.11) Y2(-236.22,-118.11) Y10(-78.74,-118.11) Y13(-19.68,-118.11) Y15(19.68,-118.11) Y18(78.74,-118.11) Y26(236.22,-118.11) Y27(255.91,-118.11)
Top Overlay:
  circle w7.87: c-295.28,255.91 r3.94
  lines w5: -275.59,-137.8 -275.59,-275.59 -137.8,-275.59 ; -275.59,137.8 -275.59,275.59 -137.8,275.59 ; 137.8,-275.59 275.59,-275.59 275.59,-137.8 ; 137.8,275.59 275.59,275.59 275.59,137.8
Mechanical 13:
  circle w7.87: c-295.28,255.91 r3.94
  lines w5: -275.59,-275.59 -275.59,275.59 275.59,275.59 275.59,-275.59 -275.59,-275.59
Mechanical 15:
  lines w1.97: -314.96,-314.96 -314.96,314.96 314.96,314.96 314.96,-314.96 -314.96,-314.96

## CAPC0603X33N [mil]
pads (2):
  rect 8x15.75 smd mask+2: 1(-12,0) 2(12.06,0)
Mechanical 13:
  lines w5: -11.6,-6.3 -11.6,6.3 13.6,6.3 13.6,-6.3 -11.6,-6.3
Mechanical 15:
  lines w1.97: -27.27,-17.64 -27.27,17.64 29.27,17.64 29.27,-17.64 -27.27,-17.64
3D body "CAPC0603X39N.step": height 12.99, standoff 0, extent -10.81,-5.91 12.81,5.91

## CAPC1005X55N2 [mm]
pads (2):
  rrect53% 0.54x0.6 smd: 1(-0.43,0) 2(0.43,0)
Top Overlay:
  lines w0.127: -0.5,-0.48 0.5,-0.48 ; -0.5,0.48 0.5,0.48
Mechanical 13:
  lines w0.127: -0.53,-0.28 -0.53,0.28 0.53,0.28 0.53,-0.28 -0.53,-0.28
Mechanical 15:
  lines w0.05: -0.85,-0.54 -0.85,0.54 0.85,0.54 0.85,-0.54 -0.85,-0.54
3D body "YAG_CC0402_YAG.step": height 0.56, standoff 0, extent -0.521,-0.279 0.521,0.279

## CAPC1608X100N [mm]
pads (2):
  rect 1x1.02 smd: 1(-0.759,0) 2(0.759,0)
Mechanical 13:
  lines w0.127: -0.9,-0.5 0.9,-0.5 0.9,0.5 -0.9,0.5 -0.9,-0.5
Mechanical 15:
  lines w0.05: -1.508,-0.758 1.508,-0.758 1.508,0.758 -1.508,0.758 -1.508,-0.758
3D body "step_temp.STEP": height 1, standoff 0, extent -0.8,-0.4 0.8,0.4

## CL05A106MQ5NUNC [mm]
pads (2):
  rrect53% 0.54x0.6 smd: 1(-0.43,0) 2(0.43,0)
Top Overlay:
  lines w0.127: -0.5,-0.48 0.5,-0.48 ; -0.5,0.48 0.5,0.48
Mechanical 13:
  lines w0.127: -0.53,-0.28 -0.53,0.28 0.53,0.28 0.53,-0.28 -0.53,-0.28
Mechanical 15:
  lines w0.05: -0.85,-0.54 -0.85,0.54 0.85,0.54 0.85,-0.54 -0.85,-0.54

## GCT_USB4110GFA [mm]
pads (18):
  rect 0.6x1.15 smd: A1/B12(-3.2,1.075) A4/B9(-2.4,1.075) B1/A12(3.2,1.075) B4/A9(2.4,1.075)
  rect 0.3x1.15 smd: A5(-1.25,1.075) A6(-0.25,1.075) A7(0.25,1.075) A8(1.25,1.075) B5(1.75,1.075) B6(0.75,1.075) B7(-0.75,1.075) B8(-1.75,1.075)
  rect 2.18x2 smd: S1(-5.11,0.5) S2(5.11,0.5) S3(-5.11,-3.43) S4(5.11,-3.43)
  round 0.65 hole 0.65 unplated: ""(-2.89,0) ""(2.89,0)
Top Overlay:
  circle w0.2: c-3.78,2.23 r0.1
  lines w0.2: -4.47,-4.79 -4.47,-6.28 4.47,-6.28 4.47,-4.79 ; -4.47,-2.07 -4.47,-0.86 ; 4.47,-2.07 4.47,-0.86
Mechanical 13:
  circle w0.2: c-3.78,2.23 r0.1
  lines w0.1: -4.47,-6.28 4.47,-6.28 4.47,1.07 -4.47,1.07 -4.47,-6.28
Mechanical 15:
  lines w0.05: -6.45,-6.53 -6.45,1.9 6.45,1.9 6.45,-6.53 -6.45,-6.53
3D body "step_temp.STEP": height 3.26, standoff -0.63, extent -5.65,-6.28 5.65,1.42